# EAGLE library part IS31SE5111A-ZNLS3 (library Brundage Buisness Card)
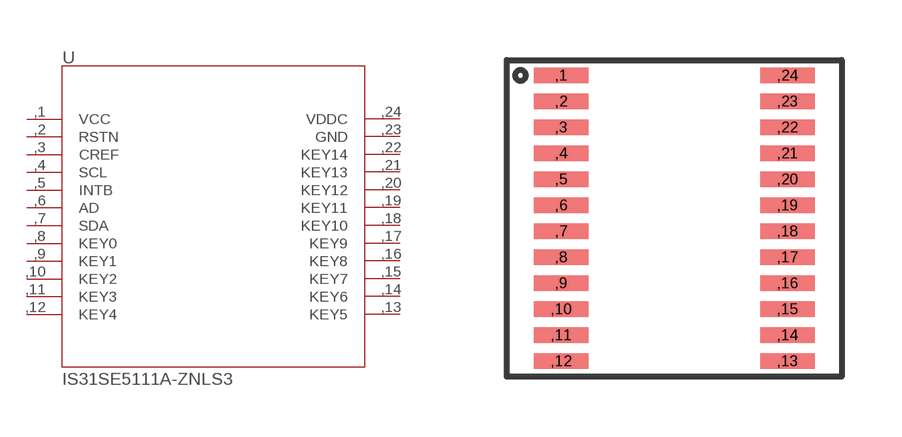
[diagram p0: symbol with the pads of LUMISSIL-TSSOP-24; footprint LUMISSIL-TSSOP-24]

Designator prefix -

## IS31SE5111A-ZNLS3  [LUMISSIL-TSSOP-24]
,1  VCC
,2  RSTN
,3  CREF
,4  SCL
,5  INTB
,6  AD
,7  SDA
,8  KEY0
,9  KEY1
,10  KEY2
,11  KEY3
,12  KEY4
,13  KEY5
,14  KEY6
,15  KEY7
,16  KEY8
,17  KEY9
,18  KEY10
,19  KEY11
,20  KEY12
,21  KEY13
,22  KEY14
,23  GND
,24  VDDC

## Footprint LUMISSIL-TSSOP-24 (pad centres in mm)
smd 1.36 x 0.39: ,1 -2.54,3.81; ,2 -2.54,3.16; ,3 -2.54,2.51; ,4 -2.54,1.86; ,5 -2.54,1.21; ,6 -2.54,0.56; ,7 -2.54,-0.09; ,8 -2.54,-0.74; ,9 -2.54,-1.39; ,10 -2.54,-2.04; ,11 -2.54,-2.69; ,12 -2.54,-3.34; ,13 3.12,-3.34; ,14 3.12,-2.69; ,15 3.12,-2.04; ,16 3.12,-1.39; ,17 3.12,-0.74; ,18 3.12,-0.09; ,19 3.12,0.56; ,20 3.12,1.21; ,21 3.12,1.86; ,22 3.12,2.51; ,23 3.12,3.16; ,24 3.12,3.81